# Altium footprint library Capacitors_rus.PCBLIB: 349 footprints (part 13 of 22)
Each footprint in its own frame and in the unit in brackets; x right, y up, seen from the top. Pads: shape width x height; smd on the part's side, far side on the other; paste and mask are expansions set on the pad; w line width, h text height; cw(c..) or ccw(c..) is an arc to the next point about the centre after c.
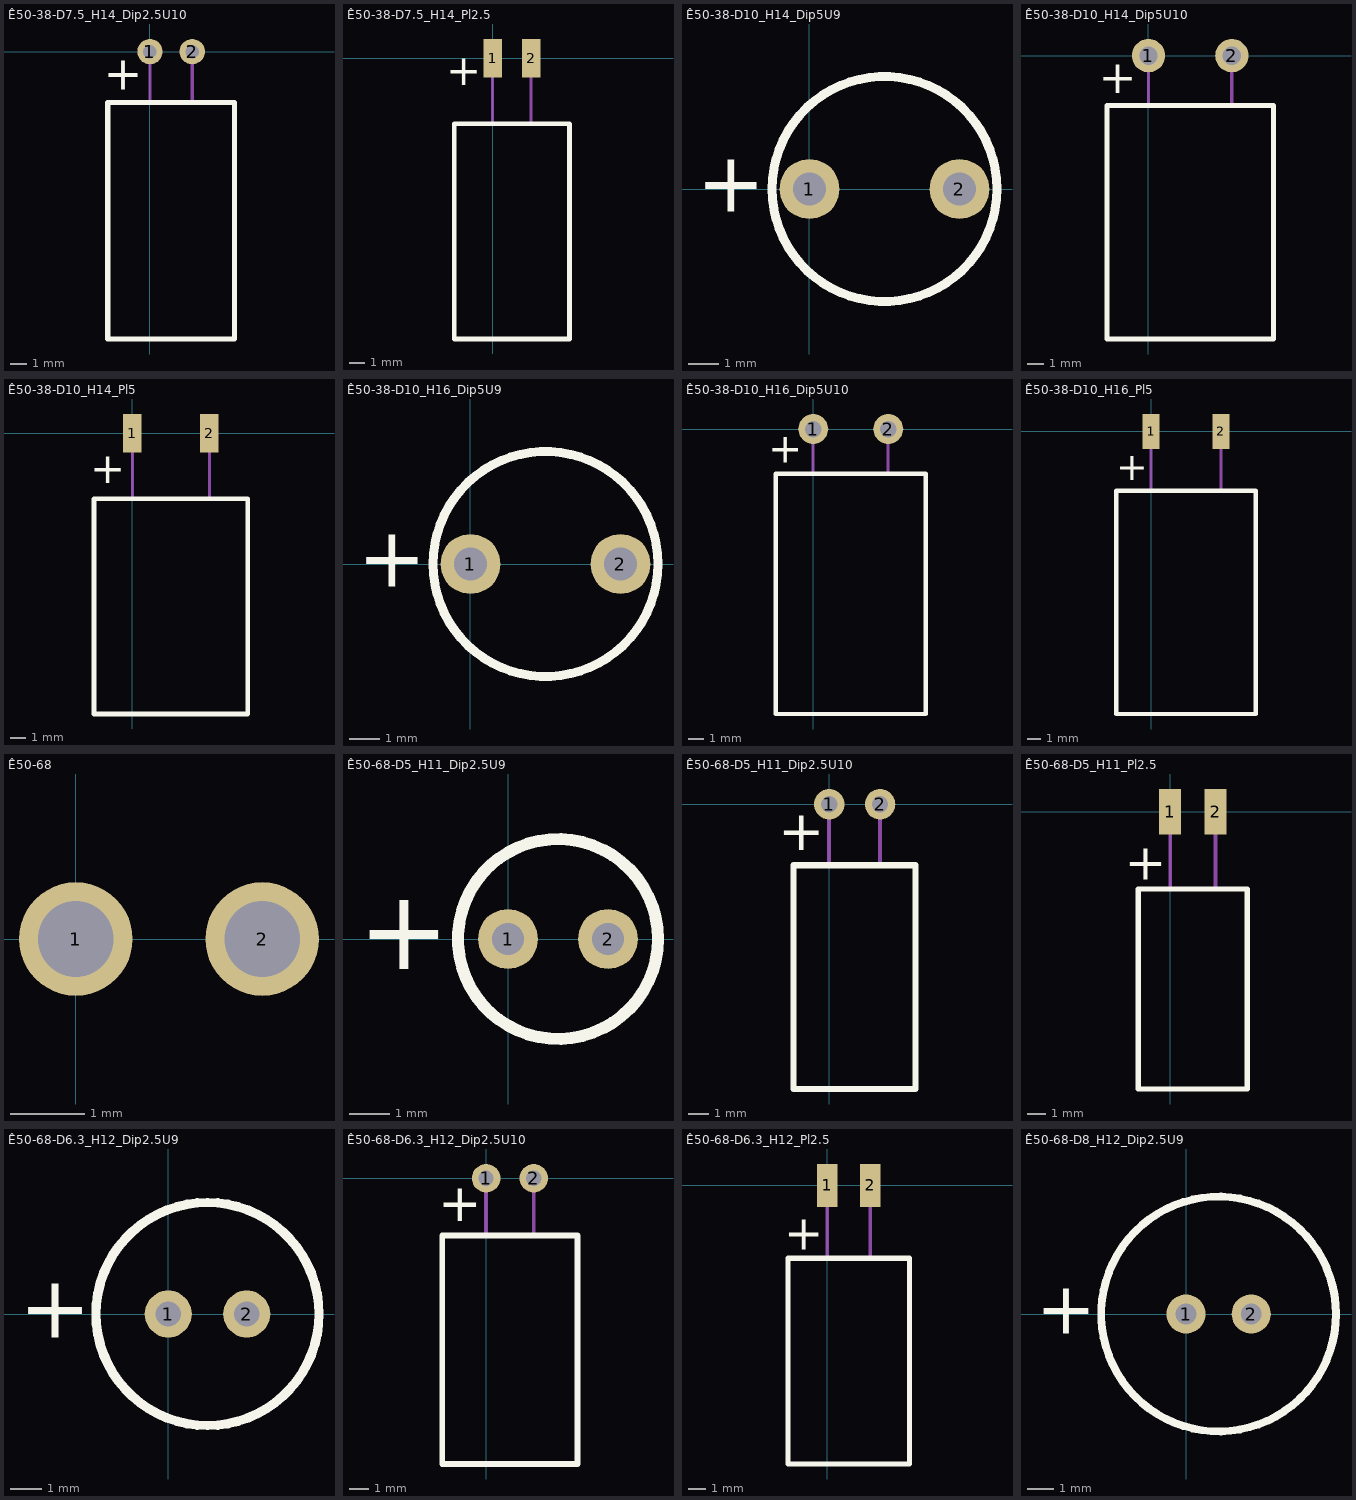
[diagram p12: the footprints below, top view; thin cyan lines are the x and y axes]

## Ê50-38-D7.5_H14_Dip2.5U10 [mm]
height 7.5
pads (2):
  round 1.5 hole 0.8: 1(0,0) 2(2.5,0)
Top Overlay:
  lines w0.3: -2.5,-17 5,-17 5,-6 5,-3 -2.5,-3 -2.5,-17
  text "+" at -2.75,-2.25 h2
Mechanical 1:
  lines w0.2: 0,-3 0,0 ; 2.5,-3.02 2.5,0 ; -2.5,-17 5,-17 5,-3 -2.5,-3 -2.5,-17
  text "+" at -0.25,-4.5 h1.5
  text ".Designator" at -0.6,-10.9 h1.5

## Ê50-38-D7.5_H14_Pl2.5 [mm]
height 7.5
pads (2):
  rect 1.2x2.5 smd: 1(0,0) 2(2.5,0)
Top Overlay:
  lines w0.3: -2.5,-18.25 -2.5,-4.25 5,-4.25 5,-7.25 5,-18.25 -2.5,-18.25
  text "+" at -3,-1.75 h2
Mechanical 1:
  lines w0.2: 0,-4.25 0,0.55 ; 2.5,-4.27 2.5,0.55 ; -2.5,-18.25 -2.5,-4.25 5,-4.25 5,-18.25 -2.5,-18.25
  text "+" at -0.25,-6.25 h1.5
  text ".Designator" at -0.85,-11.15 h1.5

## Ê50-38-D10_H14_Dip5U9 [mm]
height 14
pads (2):
  round 2 hole 1.1: 1(0,0) 2(5,0)
Top Overlay:
  circle w0.3: c2.5,0 r3.75
  text "+" at -3.75,-0.75 h2
Mechanical 1:
  circle w0.2: c2.5,0 r3.75
  text ".Designator" at 0.85,-0.5 h1.5
  text "+" at -0.5,-0.5 h1.5

## Ê50-38-D10_H14_Dip5U10 [mm]
height 10
pads (2):
  round 2 hole 1.1: 1(0,0) 2(5,0)
Top Overlay:
  lines w0.3: -2.5,-17 -2.5,-3 7.5,-3 7.5,-17 -2.5,-17
  text "+" at -3,-2.25 h2
Mechanical 1:
  lines w0.2: 0,-3 0,0 ; 5,-3.02 5,0 ; -2.5,-17 -2.5,-3 7.5,-3 7.5,-17 -2.5,-17
  text "+" at -0.25,-4.75 h1.5
  text ".Designator" at 0,-10.85 h1.5

## Ê50-38-D10_H14_Pl5 [mm]
height 10
pads (2):
  rect 1.2x2.5 smd: 1(0,0) 2(5,0)
Top Overlay:
  lines w0.3: -2.5,-18.25 7.5,-18.25 7.5,-4.25 -2.5,-4.25 -2.5,-18.25
  text "+" at -2.75,-3.25 h2
Mechanical 1:
  lines w0.2: 0,-4.25 0,0.55 ; 5,-4.27 5,0.55 ; -2.5,-18.25 7.5,-18.25 7.5,-4.25 -2.5,-4.25 -2.5,-18.25
  text ".Designator" at 0.05,-11.9 h1.5
  text "+" at -0.25,-6 h1.5

## Ê50-38-D10_H16_Dip5U9 [mm]
height 16
pads (2):
  round 2 hole 1.1: 1(0,0) 2(5,0)
Top Overlay:
  circle w0.3: c2.5,0 r3.75
  text "+" at -3.75,-0.75 h2
Mechanical 1:
  circle w0.2: c2.5,0 r3.75
  text "+" at -0.5,-0.5 h1.5
  text ".Designator" at 0.85,-0.4 h1.5

## Ê50-38-D10_H16_Dip5U10 [mm]
height 16
pads (2):
  round 2 hole 1.1: 1(0,0) 2(5,0)
Top Overlay:
  lines w0.3: -2.5,-19 -2.5,-3 7.5,-3 7.5,-19 -2.5,-19
  text "+" at -3,-2.25 h2
Mechanical 1:
  lines w0.2: 0,-3 0,0 ; 5,-3.02 5,0 ; -2.5,-19 -2.5,-3 7.5,-3 7.5,-19 -2.5,-19
  text "+" at -0.5,-4.5 h1.5
  text ".Designator" at -0.55,-11.8 h1.5

## Ê50-38-D10_H16_Pl5 [mm]
height 16
pads (2):
  rect 1.2x2.5 smd: 1(0,0) 2(5,0)
Top Overlay:
  lines w0.3: -2.5,-20.25 -2.5,-4.25 7.5,-4.25 7.5,-20.25 -2.5,-20.25
  text "+" at -2.5,-3.5 h2
Mechanical 1:
  lines w0.2: 0,-4.25 0,0.55 ; 5,-4.27 5,0.55 ; -2.5,-20.25 -2.5,-4.25 7.5,-4.25 7.5,-20.25 -2.5,-20.25
  text ".Designator" at 0.9,-12.7 h1.5
  text "+" at -0.25,-5.75 h1.5

## Ê50-68 [mil]
pads (2):
  round 60 hole 40: 1(0,0) 2(98.43,0)
Mechanical 1:
  text "+" at -49.21,19.69 h59.06
  text ".Designator" at -7.87,41.34 h59.06

## Ê50-68-D5_H11_Dip2.5U9 [mm]
height 11
pads (2):
  round 1.5 hole 0.8: 1(0,0) 2(2.5,0)
Top Overlay:
  circle w0.3: c1.25,0 r2.5
  text "+" at -3.75,-0.75 h2
Mechanical 1:
  circle w0.2: c1.25,0 r2.5
  text "+" at -0.5,-0.75 h1.5
  text ".Designator" at 0,-0.4 h1.5

## Ê50-68-D5_H11_Dip2.5U10 [mm]
height 5
pads (2):
  round 1.5 hole 0.8: 1(0,0) 2(2.5,0)
Top Overlay:
  lines w0.3: -1.75,-14 -1.75,-3 4.25,-3 4.25,-14 -1.75,-14
  text "+" at -2.5,-2.25 h2
Mechanical 1:
  lines w0.2: 0,-3 0,0 ; 2.5,-3.02 2.5,0 ; -1.75,-14 -1.75,-3 4.25,-3 4.25,-14 -1.75,-14
  text "+" at -0.25,-4.5 h1.5
  text ".Designator" at 0.2,-9.5 h1.5

## Ê50-68-D5_H11_Pl2.5 [mm]
height 5
pads (2):
  rect 1.2x2.5 smd: 1(0,0) 2(2.5,0)
Top Overlay:
  lines w0.3: -1.75,-15.25 4.25,-15.25 4.25,-4.25 -1.75,-4.25 -1.75,-15.25
  text "+" at -2.5,-3.75 h2
Mechanical 1:
  lines w0.2: 0,-4.25 0,0.55 ; 2.5,-4.25 2.5,0.55 ; -1.75,-15.25 4.25,-15.25 4.25,-4.25 -1.75,-4.25 -1.75,-15.25
  text ".Designator" at 0.1,-10.5 h1.5
  text "+" at -0.25,-6 h1.5

## Ê50-68-D6.3_H12_Dip2.5U9 [mm]
height 12
pads (2):
  round 1.5 hole 0.8: 1(0,0) 2(2.5,0)
Top Overlay:
  circle w0.3: c1.25,0 r3.55
  text "+" at -4.75,-0.75 h2
Mechanical 1:
  circle w0.2: c1.25,0 r3.55
  text ".Designator" at 0,-0.4 h1.5
  text "+" at -0.5,-0.75 h1.5

## Ê50-68-D6.3_H12_Dip2.5U10 [mm]
height 6.3
pads (2):
  round 1.5 hole 0.8: 1(0,0) 2(2.5,0)
Top Overlay:
  lines w0.3: -2.3,-15 -2.3,-3 4.8,-3 4.8,-15 -2.3,-15
  text "+" at -2.5,-2.25 h2
Mechanical 1:
  lines w0.2: 0,-3 0,0 ; 2.5,-3.02 2.5,0 ; -2.3,-15 -2.3,-3 4.8,-3 4.8,-15 -2.3,-15
  text "+" at -0.25,-4.5 h1.5
  text ".Designator" at 0.2,-9.5 h1.5

## Ê50-68-D6.3_H12_Pl2.5 [mm]
height 6.3
pads (2):
  rect 1.2x2.5 smd: 1(0,0) 2(2.5,0)
Top Overlay:
  lines w0.3: -2.3,-16.25 -2.3,-4.25 4.8,-4.25 4.8,-16.25 -2.3,-16.25
  text "+" at -2.5,-3.75 h2
Mechanical 1:
  lines w0.2: 0,-4.25 0,0.55 ; 2.5,-4.25 2.5,0.55 ; -2.3,-16.25 -2.3,-4.25 4.8,-4.25 4.8,-16.25 -2.3,-16.25
  text "+" at -0.25,-6 h1.5
  text ".Designator" at 0.1,-10.5 h1.5

## Ê50-68-D8_H12_Dip2.5U9 [mm]
height 12
pads (2):
  round 1.5 hole 0.8: 1(0,0) 2(2.5,0)
Top Overlay:
  circle w0.3: c1.25,0 r4.5
  text "+" at -5.75,-0.75 h2
Mechanical 1:
  circle w0.2: c1.25,0 r4.5
  text "+" at -1.75,-0.5 h1.5
  text ".Designator" at 0.15,-0.45 h1.5